# Altium schematic symbol library IC_DCDC.SchLib: 22 symbols
Pins are listed as number, name and electrical type; pins without a type are passive.

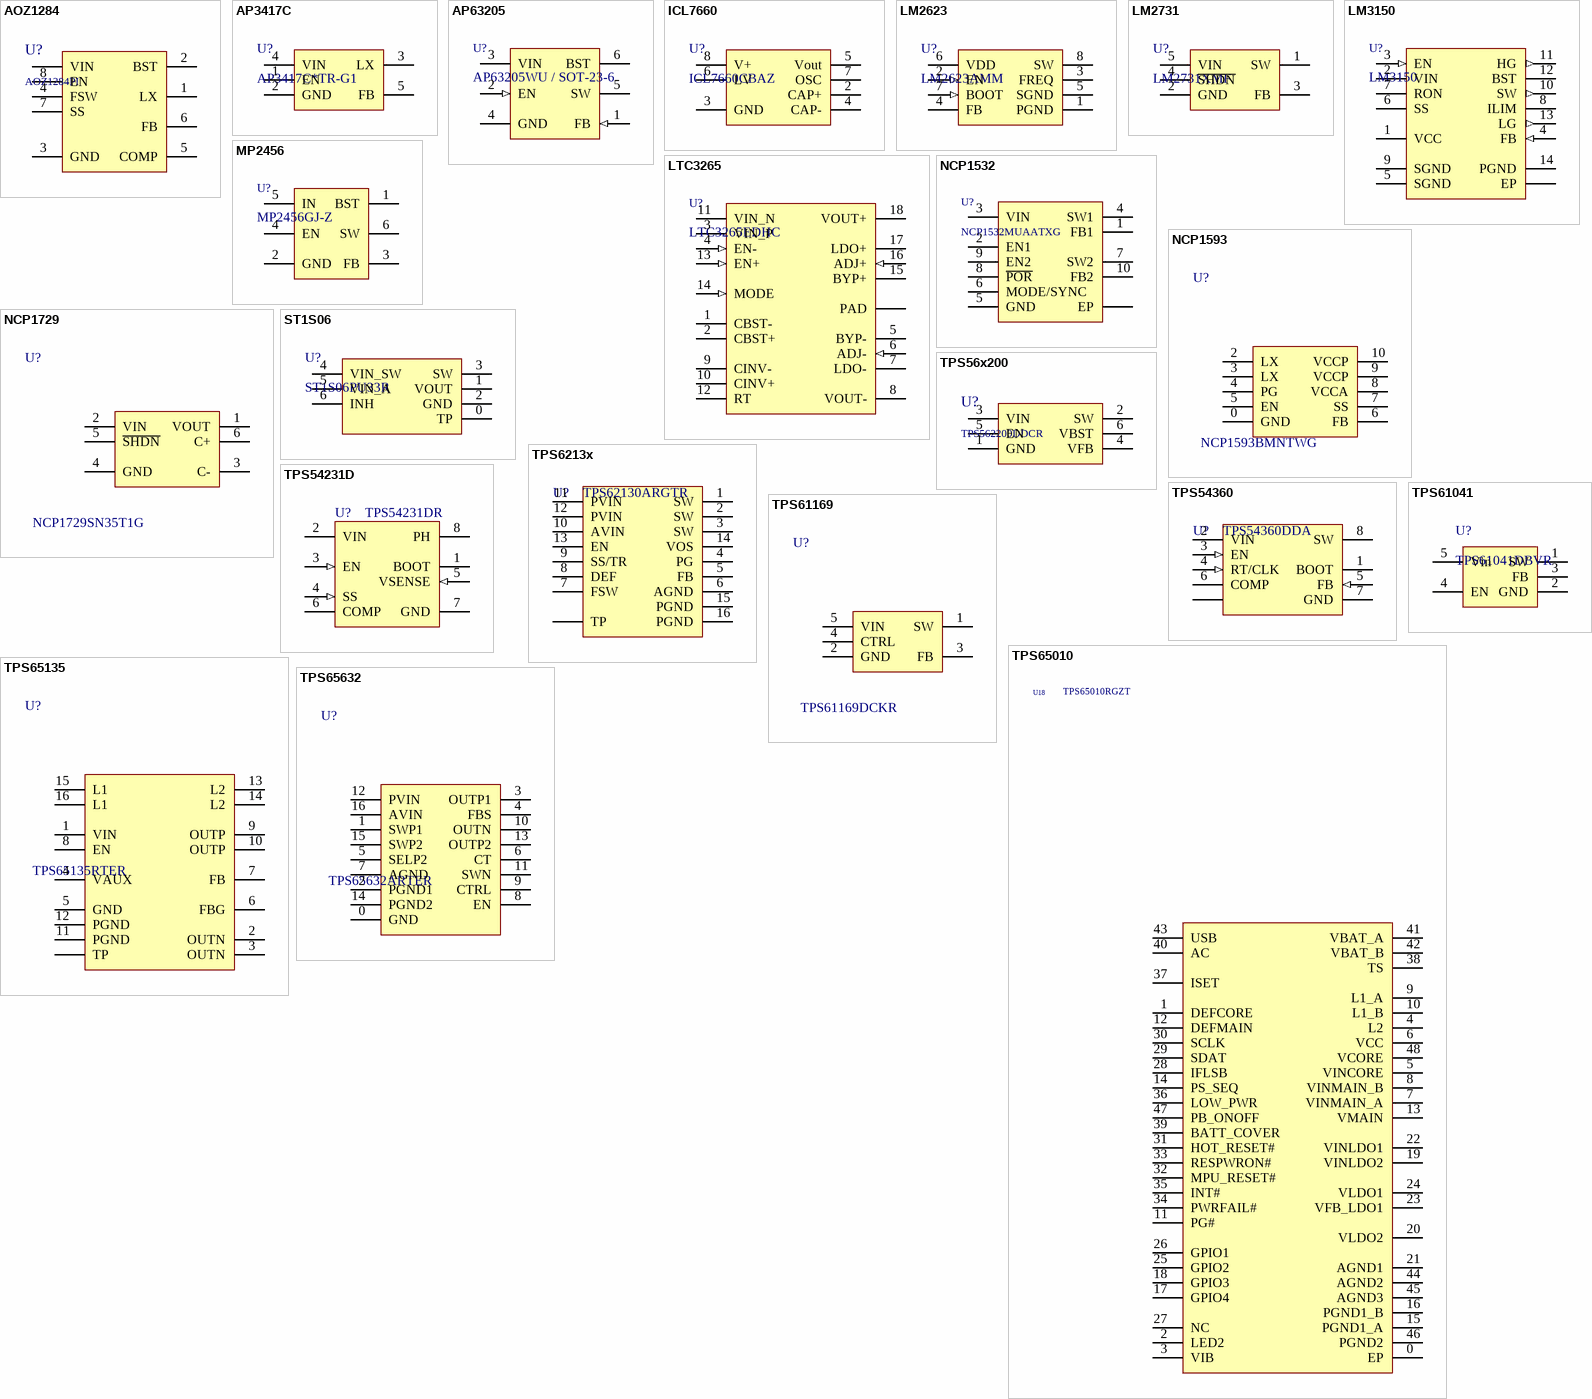
[diagram p0: symbols AOZ1284 to TPS65632]

## AOZ1284
designator U?, comment AOZ1284PI
EZBuck™ 4A Simple Buck Regulator; Name: AOZ1284PI; HelpURL: http://aosmd.com/res/data_sheets/AOZ1284PI.pdf
footprint SOIC-8_TP
pins: 0 VIN, 1 LX, 2 BST, 3 GND, 4 FSW, 5 COMP, 6 FB, 7 SS, 8 EN

## AP3417C
designator U?, comment AP3417C*TR-G1
1.5MHz synchronous step-down DC-DC converter; HelpURL: https://www.diodes.com/assets/Datasheets/AP3417C.pdf; Supplier: https://www.domko.ru/item/DIODES/AP3417CKTR-G1; BOMString: =Value; Name: AP3417C*TR-G1
footprint SOT-23-5
footprint DFN-6-0.65-2x2_novia (QFN, 6-Leads, Body 2,00x2,00mm, Pitch 0,65mm, Thermal Pad 1,55x0,86mm, IPC Medium Density); pin to pad 1>2 2>5+0 3>4 4>3 5>6
pins: 1 EN, 2 GND, 3 LX, 4 VIN, 5 FB

## AP63205
designator U?, comment AP63205WU /
3.8V TO 32V INPUT, 2A LOW IQ SYNCHRONOUS BUCK WITH ENHANCED EMI REDUCTION; Name: AP63205WU; HelpURL: https://www.diodes.com/assets/Datasheets/AP63200-AP63201-AP63203-AP63205.pdf
footprint SOT-23-6
pins: 1 FB (in), 2 EN (in), 3 VIN (power), 4 GND, 5 SW (power), 6 BST

## ICL7660
designator U?, comment ICL7660CBAZ
CMOS switched-capacitor voltage converter; HelpURL: http://www.intersil.com/content/dam/Intersil/documents/icl7/icl7660.pdf; BOMString: ICL7660CBAZ; Supplier: https://www.chipdip.ru/product/icl7660cba; Name: ICL7660CBAZ
footprint SOIC-8
pins: 2 CAP+, 3 GND, 4 CAP-, 5 Vout, 6 LV, 7 OSC, 8 V+

## LM2623
designator U?, comment LM2623AMM
General-Purpose Gated-Oscillator-Based DCDC Boost Converter; HelpURL: http://www.ti.com/lit/ds/symlink/lm2623.pdf; Supplier: http://www.digikey.com/product-detail/en/texas-instruments/LM2623AMM-NOPB/LM2623AMM-NOPBCT-ND/483062; Name: LM2623AMM; BOMString: LM2623AMM
footprint MSOP-8-0.65
pins: 1 PGND (power), 2 EN (in), 3 FREQ (power), 4 FB (power), 5 SGND (power), 6 VDD (power), 7 BOOT (in), 8 SW (power)

## LM2731
designator U?, comment LM2731XMF
General-Purpose Gated-Oscillator-Based DCDC Boost Converter; HelpURL: http://www.ti.com/lit/ds/symlink/lm2731.pdf; Supplier: http://www.digikey.com/product-detail/en/texas-instruments/LM2623AMM-NOPB/LM2623AMM-NOPBCT-ND/483062; Name: LM2731XMF; BOMString: LM2731XMF
footprint SOT-23-5
pins: 1 SW, 2 GND, 3 FB, 4 ~{SHDN}, 5 VIN

## LM3150
designator U?
Wide-VIN Synchronous Buck Controller; Name: LM3150; HelpURL: https://www.ti.com/lit/ds/symlink/lm3150.pdf
footprint TSSOP-14-0.65 (TSOP, 14-Leads, Body 5,00x4,40mm, Pitch 0,65mm, Thermal Pad 3,10x3,00mm, IPC Medium Density)
pins: 0 EP, 1 VCC, 2 VIN, 3 EN (in), 4 FB (in), 5 SGND, 6 SS, 7 RON, 8 ILIM, 9 SGND, 10 SW (out), 11 HG (out), 12 BST, 13 LG (out), 14 PGND

## LTC3265
designator U?, comment LTC3265EDHC
Low Noise Dual Supply / with Boost and Inverting / Charge Pumps; Name: LTC3265EDHC
pins: 1 CBST-, 2 CBST+, 3 VIN_P, 4 EN- (in), 5 BYP-, 6 ADJ- (in), 7 LDO-, 8 VOUT-, 9 CINV-, 10 CINV+, 11 VIN_N, 12 RT, 13 EN+ (in), 14 MODE (in), 15 BYP+, 16 ADJ+ (in), 17 LDO+, 18 VOUT+, 19 PAD

## MP2456
designator U?, comment MP2456GJ-Z
0.5A, 50V, 1.2MHz Step-Down Converter in a TSOT23-6; Manufacturer: Monolitic power systems; HelpURL: https://www.monolithicpower.com/en/documentview/productdocument/index/version/2/document_type/Datasheet/lang/en/sku/MP2456/document_id/820; Supplier: https://www.chipdip.ru/product1/8002863171; Name: MP2456GJ-Z; BOMString: MP2456GJ-Z
footprint SOT-23-6
pins: 1 BST, 2 GND, 3 FB, 4 EN, 5 IN, 6 SW

## NCP1532
designator U?, comment NCP1532MUAATXG
Dual Output Step-Down Converter 2.25 MHz High-Efficiency, Out of Phase Operation, Low Quiescent Current, Source up to 1.6A; HelpURL: http://www.onsemi.com/pub/Collateral/NCP1532-D.PDF; Supplier: https://www.digikey.com/product-detail/en/on-semiconductor/NCP1532MUAATXG/NCP1532MUAATXGOSCT-ND/2705178; Name: NCP1532MUAATXG; BOMString: NCP1532MUAATXG
footprint DFN-10-0.5_3x3_TP (SON, 0.50mm Pitch, 10-pin, 3.00mm W  X 3.00mm L X 0.80mm Height, (w/thermal tab 1.75 X 2.48 mm), IPC Medium Density)
pins: 0 EP, 1 FB1, 2 EN1, 3 VIN, 4 SW1, 5 GND, 6 MODE/SYNC, 7 SW2, 8 ~{POR}, 9 EN2, 10 FB2

## NCP1593
designator U?, comment NCP1593BMNTWG
1 MHz, 3 A Synchronous Buck Regulator; HelpURL: https://www.onsemi.com/pub/Collateral/NCP1593-D.PDF; Name: NCP1593BMNTWG; BOMString: NCP1593BMNTWG; Supplier: https://www.digikey.com/product-detail/en/on-semiconductor/NCP1593BMNTWG/NCP1593BMNTWGOSTR-ND/3198087
footprint DFN-10-0.5_3x3_TP_BEVEL - duplicate (SON, 0.50mm Pitch, 10-pin, 3.00mm W  X 3.00mm L X 0.80mm Height, (w/thermal tab 1.75 X 2.48 mm), IPC Medium Density)
pins: 0 GND, 2 LX, 3 LX, 4 PG, 5 EN, 6 FB, 7 SS, 8 VCCA, 9 VCCP, 10 VCCP

## NCP1729
designator U?, comment NCP1729SN35T1G
50 mA Switched Capacitor Voltage Inverter; HelpURL: https://www.onsemi.com/pub/Collateral/NCP1729-D.PDF; Name: NCP1729SN35T1G; BOMString: NCP1729SN35T1G; Supplier: https://www.digikey.com/product-detail/en/on-semiconductor/NCP1729SN35T1G/NCP1729SN35T1GOSCT-ND/1967221
footprint SOT-23-6
pins: 1 VOUT, 2 VIN, 3 C-, 4 GND, 5 ~{SHDN}, 6 C+

## ST1S06
designator U?, comment ST1S06PU33R
1.5 A 1.5 MHz fixed step-down requlator; Supplier: https://www.digikey.com/product-detail/en/stmicroelectronics/ST1S06PU33R/497-6311-1-ND/1762232; HelpURL: http://www.st.com/content/ccc/resource/technical/document/datasheet/b3/2f/7b/c6/95/7d/40/e8/CD00100211.pdf/files/CD00100211.pdf/jcr:content/translations/en.CD00100211.pdf; Name: ST1S06PU33R; BOMString: ST1S06PU33R
footprint DFN-6-0.95-3x3 (SON, 6-Leads, Body 3,00x3,00mm, Pitch 0,95mm, Thermal Pad 2,50x1,72mm, IPC High Density)
footprint DFN-6-0.95-3x3_small_via (SON, 6-Leads, Body 3,00x3,00mm, Pitch 0,95mm, Thermal Pad 2,50x1,72mm, IPC High Density)
pins: 0 TP, 1 VOUT, 2 GND, 3 SW, 4 VIN_SW, 5 VIN_A, 6 INH

## TPS56x200
designator U?, comment TPS562200DDCR
4.5 To 17V Input, 2-3A Synchronous Step-Down Voltage Regulator In SOT-23-6; Supplier: https://www.digikey.com/product-detail/en/texas-instruments/TPS562200DDCR/296-39631-2-ND/4733867; HelpURL: http://www.ti.com/lit/ds/symlink/tps562200.pdf
footprint SOT-23-6
pins: 1 GND, 2 SW, 3 VIN, 4 VFB, 5 EN, 6 VBST

## TPS6213x
designator U?, comment TPS62130ARGTR
3-V to17-V, 3-A Step-Down Converter; Name: TPS62130ARGTR; BOMString: TPS62130ARGTR; HelpURL: http://www.ti.com/lit/ds/symlink/tps62130a.pdf; Supplier: https://www.digikey.com/product-detail/en/texas-instruments/TPS62130ARGTR/296-39446-1-ND/5143394
footprint QFN-16-0.5-3x3_TP
pins: 0 TP, 1 SW, 2 SW, 3 SW, 4 PG, 5 FB, 6 AGND, 7 FSW, 8 DEF, 9 SS/TR, 10 AVIN, 11 PVIN, 12 PVIN, 13 EN, 14 VOS, 15 PGND, 16 PGND

## TPS54231D
designator U?, comment TPS54231DR
2-A, 28-V Input, Step-Down DC-DC Converter With Eco-mode; Manufacturer: Texas Instruments; Name: TPS54231DR; BOMString: TPS54231DR; HelpURL: http://www.ti.com/lit/ds/symlink/tps54231.pdf; Supplier: https://www.digikey.com/product-detail/en/texas-instruments/TPS54231DR/296-23844-1-ND/1960951
footprint SOIC-8
pins: 1 BOOT "A 0.1 uF bootstrap capacitor is required between BOOT and PH. If the voltage on this capacitor falls below the minimum requirement, the high-side MOSFET is forced to switch off until the capacitor is refreshed.", 2 VIN (power) "Input supply voltage, 3.5 V to 28 V.", 3 EN (in) "Enable pin. Pull below 1.25 V to disable. Float to enable. Programming the input undervoltage lockout with two resistors is recommended.", 4 SS (in) "Slow start pin. An external capacitor connected to this pin sets the output rise time.", 5 VSENSE (in) "Inverting node of the gm error amplifier.", 6 COMP "Error amplifier output, and input to the PWM comparator. Connect frequency compensation components to this pin.", 7 GND (power) "Ground.", 8 PH (power) "The source of the internal high-side power MOSFET"

## TPS54360
designator U?, comment TPS54360DDA
60-V Input, 3.5-A, Step-Down DC/DC Converter With Eco-Mode; Manufacturer: Texas Instruments; Name: TPS54360DDA; BOMString: TPS54360DDA; HelpURL: https://www.ti.com/lit/ds/symlink/tps54360.pdf; Supplier: https://www.chipdip.ru/product/tps54360dda
footprint SOIC-8_TP
pins: 0 EP (power) "Ground.", 1 BOOT "A 0.1 uF bootstrap capacitor is required between BOOT and PH. If the voltage on this capacitor falls below the minimum requirement, the high-side MOSFET is forced to switch off until the capacitor is refreshed.", 2 VIN (power) "Input supply voltage, 3.5 V to 28 V.", 3 EN (in) "Enable pin. Pull below 1.25 V to disable. Float to enable. Programming the input undervoltage lockout with two resistors is recommended.", 4 RT/CLK (in) "Slow start pin. An external capacitor connected to this pin sets the output rise time.", 5 FB (in) "Inverting node of the gm error amplifier.", 6 COMP "Error amplifier output, and input to the PWM comparator. Connect frequency compensation components to this pin.", 7 GND (power) "Ground.", 8 SW (power) "The source of the internal high-side power MOSFET"

## TPS61041
designator U?, comment TPS61041DBVR
Low-Power DC-DC Boost Converter; Supplier: http://www.compel.ru/infosheet/TI/TPS61041DBVR; HelpURL: http://www.ti.com.cn/cn/lit/ds/symlink/tps61040.pdf; Name: TPS61041DBVR; BOMString: TPS61041DBVR
footprint SOT-23-5
footprint DFN-6-0.65-2x2_2via (QFN, 6-Leads, Body 2,00x2,00mm, Pitch 0,65mm, Thermal Pad 1,55x0,86mm, IPC Medium Density); pin to pad 1>6 2>1 3>4 4>3 5>2
pins: 1 SW, 2 GND, 3 FB, 4 EN, 5 Vin

## TPS61169
designator U?, comment TPS61169DCKR
38-V High Current-Boost WLED Driver with PWM Control; HelpURL: http://www.ti.com/lit/ds/symlink/tps61169.pdf; Supplier: https://www.digikey.com/product-detail/en/texas-instruments/TPS61169DCKR/296-40821-1-ND/5178698; Name: TPS61169DCKR; BOMString: TPS61169DCKR
footprint SOT-23-5
pins: 1 SW, 2 GND, 3 FB, 4 CTRL, 5 VIN

## TPS65010
designator U18, comment TPS65010RGZT
Power and Battery Management IC for Li-Ion Powered Systems; Name: TPS65010RGZT
footprint QFN-48-0.5-7x7_TP
pins: 0 EP, 1 DEFCORE, 2 LED2, 3 VIB, 4 L2, 5 VINCORE, 6 VCC, 7 VINMAIN_A, 8 VINMAIN_B, 9 L1_A, 10 L1_B, 11 PG#, 12 DEFMAIN, 13 VMAIN, 14 PS_SEQ, 15 PGND1_A, 16 PGND1_B, 17 GPIO4, 18 GPIO3, 19 VINLDO2, 20 VLDO2, 21 AGND1, 22 VINLDO1, 23 VFB_LDO1, 24 VLDO1, 25 GPIO2, 26 GPIO1, 27 NC, 28 IFLSB, 29 SDAT, 30 SCLK, 31 HOT_RESET#, 32 MPU_RESET#, 33 RESPWRON#, 34 PWRFAIL#, 35 INT#, 36 LOW_PWR, 37 ISET, 38 TS, 39 BATT_COVER, 40 AC, 41 VBAT_A, 42 VBAT_B, 43 USB, 44 AGND2, 45 AGND3, 46 PGND2, 47 PB_ONOFF, 48 VCORE

## TPS65135
designator U?, comment TPS65135RTER
Single-Inductor multiple-output regulator; HelpURL: http://www.ti.com/lit/ds/symlink/tps65135.pdf; Supplier: https://www.digikey.com/product-detail/en/texas-instruments/TPS65135RTER/296-29899-1-ND/2782629; Name: TPS65135RTER; BOMString: TPS65135RTER
footprint QFN-16-0.5-3x3_TP
pins: 0 TP, 1 VIN, 2 OUTN, 3 OUTN, 4 VAUX, 5 GND, 6 FBG, 7 FB, 8 EN, 9 OUTP, 10 OUTP, 11 PGND, 12 PGND, 13 L2, 14 L2, 15 L1, 16 L1

## TPS65632
designator U?, comment TPS65632ARTER
Triple-Output AMOLED Display Power Supply; Name: TPS65632ARTER; BOMString: TPS65632ARTER; Supplier: https://www.digikey.com/product-detail/en/texas-instruments/TPS65632ARTER/296-34877-1-ND/3587220; HelpURL: http://www.ti.com/lit/ds/slvscy2a/slvscy2a.pdf
footprint QFN-16-0.5-3x3_TP
pins: 0 GND, 1 SWP1, 2 PGND1, 3 OUTP1, 4 FBS, 5 SELP2, 6 CT, 7 AGND, 8 EN, 9 CTRL, 10 OUTN, 11 SWN, 12 PVIN, 13 OUTP2, 14 PGND2, 15 SWP2, 16 AVIN